# Altium integrated library userlib.IntLib: 21 symbols
Pins are listed as number, name and electrical type; pins without a type are passive.

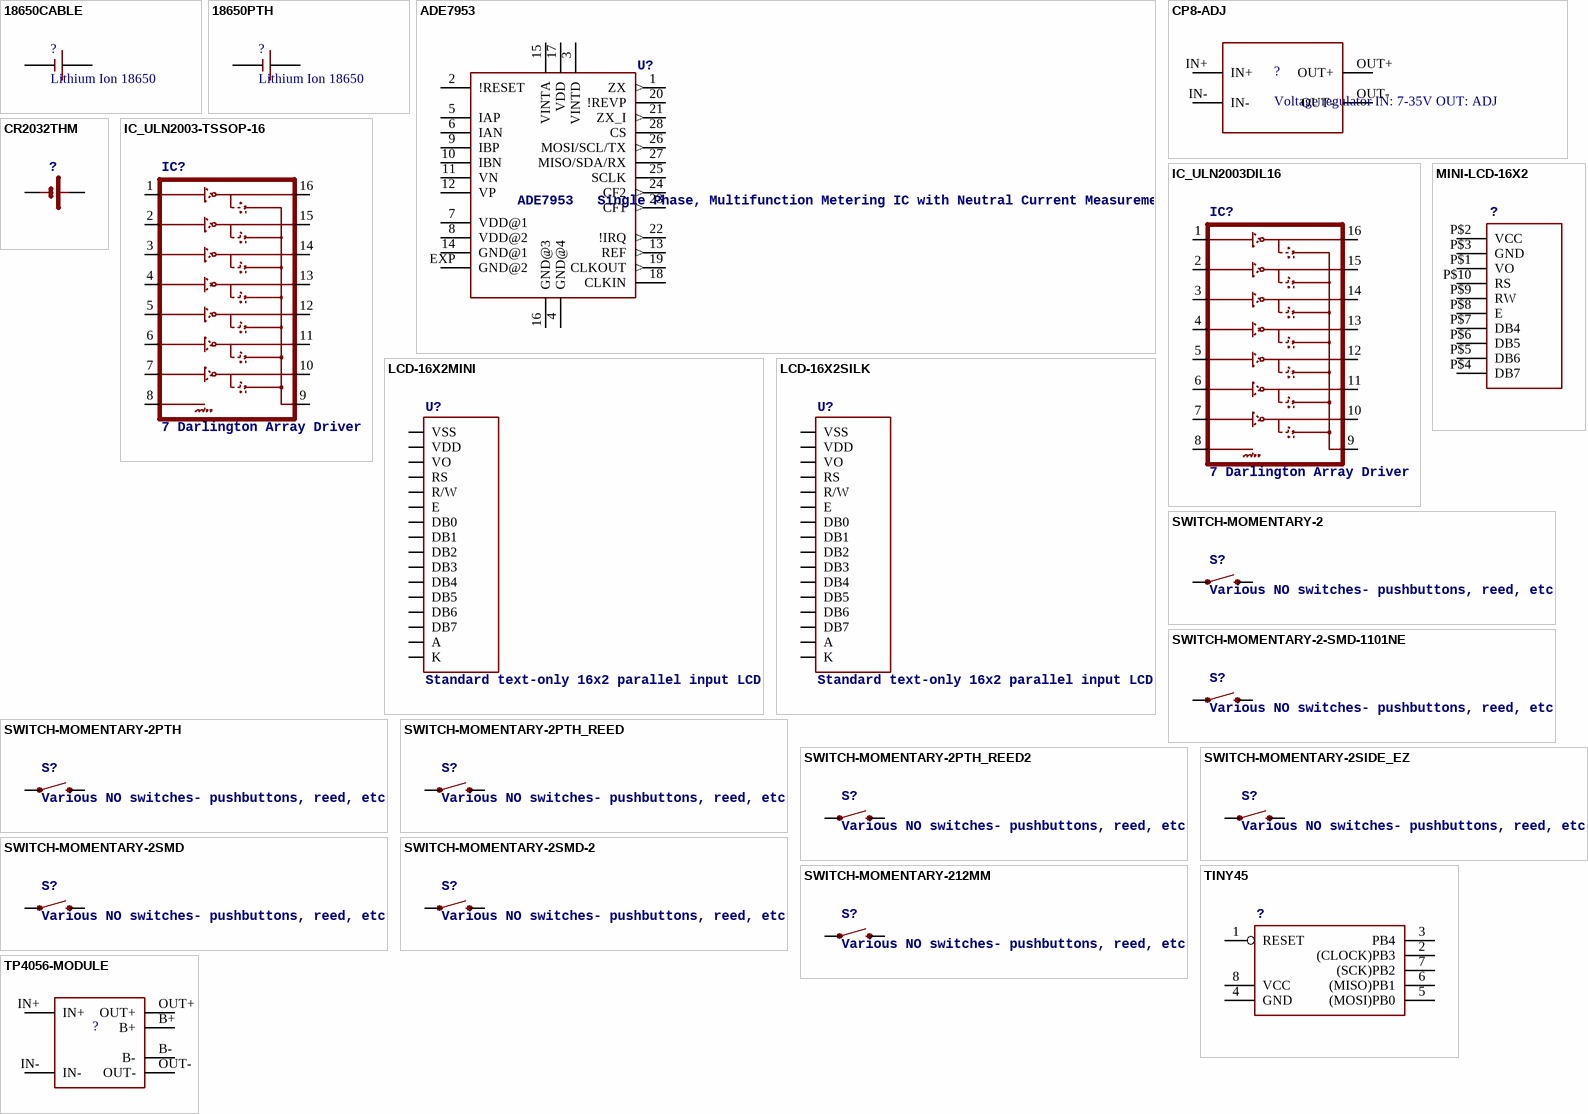
[diagram p0: symbols 18650CABLE to TP4056-MODULE]

## 18650CABLE
designator ?, comment Lithium Ion 18650
footprint 18650-CASE-CABLE
pins: NEG (power), POS (power)

## 18650PTH
designator ?, comment Lithium Ion 18650
footprint 18650-CASE-PTH
pins: NEG (power), POS (power)

## ADE7953
designator U?, comment ADE7953   Single Phase, Multifunction Metering IC with Neutral Current Measurement
footprint LFCSP28
pins: 1 ZX (out), 2 !RESET, 3 VINTD, 4 GND@4 (power), 5 IAP, 6 IAN, 7 VDD@1 (power), 8 VDD@2 (power), 9 IBP, 10 IBN, 11 VN, 12 VP, 13 REF (out), 14 GND@1 (power), 15 VINTA, 16 GND@3 (power), 17 VDD, 18 CLKIN, 19 CLKOUT (out), 20 !REVP, 21 ZX_I (out), 22 !IRQ (out), 23 CF1 (out), 24 CF2 (out), 25 SCLK, 26 MOSI/SCL/TX (out), 27 MISO/SDA/RX, 28 CS, EXP GND@2 (power)

## CP8-ADJ
designator ?, comment Voltage regulator IN: 7-35V OUT: ADJ
footprint CP8-ADJ
pins: IN+, IN-, OUT+, OUT-

## CR2032THM
designator ?
footprint CR2032-THRU
pins: +, -

## IC_ULN2003-TSSOP-16
designator IC?, comment 7 Darlington Array Driver
footprint TSSOP-16
pins: 1 1B, 2 2B, 3 3B, 4 4B, 5 5B, 6 6B, 7 7B, 8 GND, 9 COM, 10 7C, 11 6C, 12 5C, 13 4C, 14 3C, 15 2C, 16 1C

## IC_ULN2003DIL16
designator IC?, comment 7 Darlington Array Driver
footprint DIL16
pins: 1 1B, 2 2B, 3 3B, 4 4B, 5 5B, 6 6B, 7 7B, 8 GND, 9 COM, 10 7C, 11 6C, 12 5C, 13 4C, 14 3C, 15 2C, 16 1C

## LCD-16X2MINI
designator U?, comment Standard text-only 16x2 parallel input LCD
footprint LCD-16X2
pins: ?1 A (power), ?2 DB0, ?3 DB1, ?4 DB2, ?5 DB3, ?6 DB4, ?7 DB5, ?8 DB6, ?9 DB7, ?10 E, ?11 K (power), ?12 R/W, ?13 RS, ?14 VDD (power), ?15 VO, ?16 VSS (power)

## LCD-16X2SILK
designator U?, comment Standard text-only 16x2 parallel input LCD
footprint LCD-16X2
pins: 1 VSS (power), 2 VDD (power), 3 VO, 4 RS, 5 R/W, 6 E, 7 DB0, 8 DB1, 9 DB2, 10 DB3, 11 DB4, 12 DB5, 13 DB6, 14 DB7, 15 A (power), 16 K (power)

## MINI-LCD-16X2
designator ?
footprint MINI-LCD-16X2
pins: P$1 VO, P$2 VCC (power), P$3 GND (power), P$4 DB7, P$5 DB6, P$6 DB5, P$7 DB4, P$8 E, P$9 RW, P$10 RS

## SWITCH-MOMENTARY-2
designator S?, comment Various NO switches- pushbuttons, reed, etc
footprint TACTILE_SWITCH_TALL
pins: A2 1, B2 2

## SWITCH-MOMENTARY-2-SMD-1101NE
designator S?, comment Various NO switches- pushbuttons, reed, etc
footprint TACTILE-SWITCH-1101NE
pins: P$1 1, P$2 2

## SWITCH-MOMENTARY-2PTH
designator S?, comment Various NO switches- pushbuttons, reed, etc
footprint TACTILE-PTH
pins: 1, 3 2

## SWITCH-MOMENTARY-2PTH_REED
designator S?, comment Various NO switches- pushbuttons, reed, etc
footprint REED_SWITCH_PTH
pins: P$1 1, P$2 2

## SWITCH-MOMENTARY-2PTH_REED2
designator S?, comment Various NO switches- pushbuttons, reed, etc
footprint REED_SWITCH_PLASTIC
pins: P$1 1, P$2 2

## SWITCH-MOMENTARY-2SIDE_EZ
designator S?, comment Various NO switches- pushbuttons, reed, etc
footprint TACTILE-PTH-SIDEEZ
pins: 1, 2

## SWITCH-MOMENTARY-2SMD
designator S?, comment Various NO switches- pushbuttons, reed, etc
footprint TACTILE_SWITCH_SMD
pins: 1, 3 2

## SWITCH-MOMENTARY-2SMD-2
designator S?, comment Various NO switches- pushbuttons, reed, etc
footprint TACTILE_SWITCH_SMD-2
pins: 1 2, 2 1

## SWITCH-MOMENTARY-212MM
designator S?, comment Various NO switches- pushbuttons, reed, etc
footprint TACTILE-PTH-12MM
pins: 1, 3 2

## TINY45
designator ?
footprint SOIC8
pins: 1 RESET, 2 (CLOCK)PB3, 3 PB4, 4 GND (power), 5 (MOSI)PB0, 6 (MISO)PB1, 7 (SCK)PB2, 8 VCC (power)

## TP4056-MODULE
designator ?
footprint TP4056-LITHIUM-PROTECTED-MODULE
pins: B+ (power), B- (power), IN+ (power), IN- (power), OUT+ (power), OUT- (power)